# Altium footprint library RES0805.PcbLib: 1 footprints
Each footprint in its own frame and in the unit in brackets; x right, y up, seen from the top. Pads: shape width x height; smd on the part's side, far side on the other; paste and mask are expansions set on the pad; w line width, h text height; cw(c..) or ccw(c..) is an arc to the next point about the centre after c.
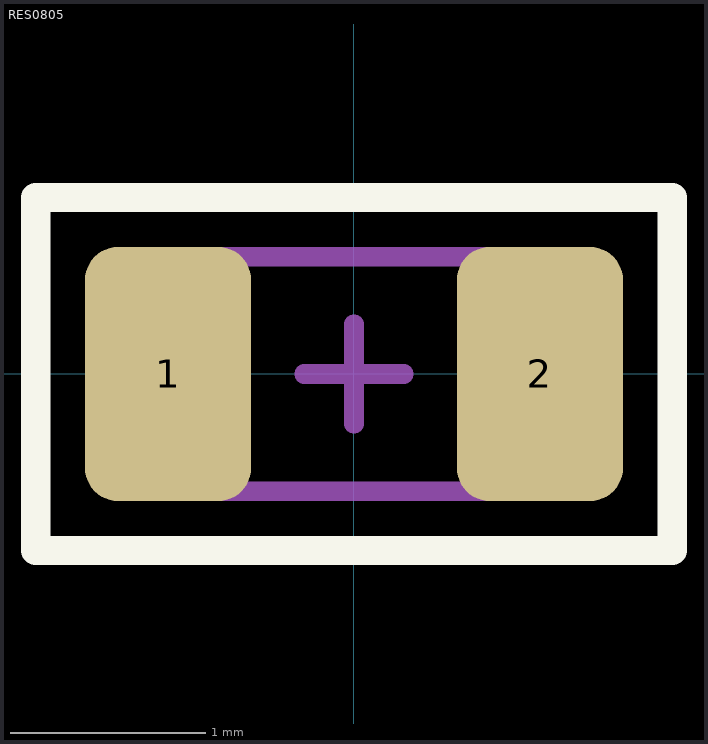
[diagram p0: the footprint, top view; thin cyan lines are the x and y axes]

## RES0805 [mm] "Generic 0805 PCB Footprint"
pads (2):
  rrect40% 0.85x1.3 smd mask+0.102: 1(-0.95,0) 2(0.95,0)
Top Overlay:
  lines w0.15: -1.626,-0.902 1.626,-0.902 1.626,0.902 -1.626,0.902 -1.626,-0.902
Top Designator:
  text ".Designator" at -7.618,-0.508 h1.52
Mechanical 13:
  lines w0.1: -1,-0.6 -1,0.6 1,0.6 1,-0.6 -1,-0.6
Mechanical 15:
  lines w0.1: -0.254,0 0.254,0 ; 0,-0.254 0,0.254
3D body "RES0805.stp": height 0.6, standoff 0, extent -1,-0.625 1,0.625